# EAGLE library part LTC3109_SSOP (library hijack)
Possibly Magic Power IC Auto-Polarity, Ultralow Voltage Step-Up Converter and Power Manager
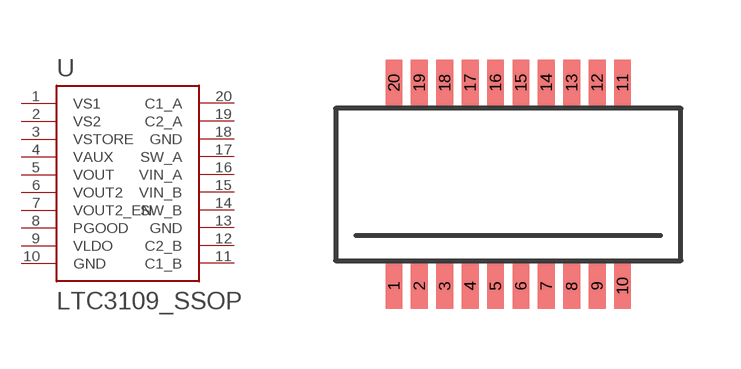
[diagram p7: symbol with the pads of SSOP-20; footprint SSOP-20]

Designator prefix -

## LTC3109_SSOP (DIGIKEY: LTC3109EGN#PBF-ND)  [SSOP-20]
1  VS1
2  VS2
3  VSTORE
4  VAUX
5  VOUT
6  VOUT2
7  VOUT2_EN
8  PGOOD
9  VLDO
10  GND
11  C1_B
12  C2_B
13  GND
14  SW_B
15  VIN_B
16  VIN_A
17  SW_A
18  GND
19  C2_A
20  C1_A

## Footprint SSOP-20 (pad centres in mm)
smd 0.419 x 1.143: 1 -2.857,-2.54; 2 -2.223,-2.54; 3 -1.587,-2.54; 4 -0.953,-2.54; 5 -0.318,-2.54; 6 0.318,-2.54; 7 0.953,-2.54; 8 1.587,-2.54; 9 2.223,-2.54; 10 2.857,-2.54; 11 2.857,2.54; 12 2.223,2.54; 13 1.587,2.54; 14 0.953,2.54; 15 0.318,2.54; 16 -0.318,2.54; 17 -0.953,2.54; 18 -1.587,2.54; 19 -2.223,2.54; 20 -2.857,2.54